# Altium integrated library 72309-8034BLF.IntLib: 1 symbol
Pins are listed as number, name and electrical type; pins without a type are passive.

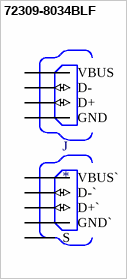
[diagram p0: symbol 72309-8034BLF]

## 72309-8034BLF
designator J
USB-A _USB TYPE-A_, Stacked USB 2.0 Receptacle Connector 8 Position Through Hole, Right Angle; MP: 72309-8034BLF; MF: Amphenol ICC; Package: None; Digi-Key_Purchase_URL: https://www.digikey.pk/product-detail/en/amphenol-icc-fci/72309-8034BLF/609-1040-ND/1001354?utm_source=snapeda&utm_medium=aggregator&utm_campaign=symbol; Digi-Key_Part_Number: 609-1040-ND; SnapEDA_Link: https://www.snapeda.com/parts/72309-8034BLF/Amphenol%20FCI/view-part/2767195/?ref=snap; Value: *
footprint FRAMATOME_72309-8034BLF
pins: 1 S (power), 2 S (power), A1 VBUS` (power), A2 D-` (io), A3 D+` (io), A4 GND` (power), B1 VBUS (power), B2 D- (io), B3 D+ (io), B4 GND (power)